# Altium schematic symbol library LTC2850CDD#PBF.SchLib: 1 symbol
Pins are listed as number, name and electrical type; pins without a type are passive.

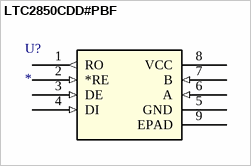
[diagram p0: symbol LTC2850CDD#PBF]

## LTC2850CDD#PBF
designator U?
Imported; Manufacturer_Part_Number: LTC2850CDD#PBF; Vendor: Linear Technology; Built_By: EMA_UL_Team; RefDes: RefDes; Type: DEV; Value: Value
footprint DFN-8_DD
pins: 1 RO (out), 2 *RE (in), 3 DE (in), 4 DI (in), 5 GND (power), 6 A (in), 7 B (in), 8 VCC (power), 9 EPAD